# Altium footprint library HLK10M05.PcbLib: 1 footprints
Each footprint in its own frame and in the unit in brackets; x right, y up, seen from the top. Pads: shape width x height; smd on the part's side, far side on the other; paste and mask are expansions set on the pad; w line width, h text height; cw(c..) or ccw(c..) is an arc to the next point about the centre after c.
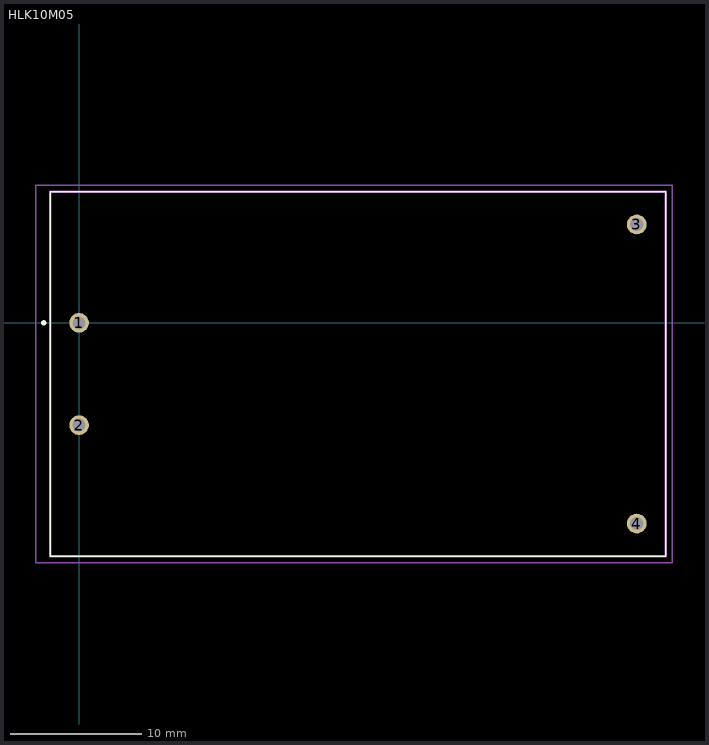
[diagram p0: the footprint, top view; thin cyan lines are the x and y axes]

## HLK10M05 [mm]
pads (4):
  round 1.5 hole 1: 1(0,0) 2(0,-7.8) 3(42.5,7.5) 4(42.5,-15.3)
Top Overlay:
  lines w0.1: -2.2,-17.8 44.7,-17.8 44.7,10 -2.2,10 -2.2,-17.8
  lines w0.2: -2.7,-0.1 cw(c-2.7,0) -2.7,0.1 ; -2.7,-0.1 -2.7,-0.1 ; -2.7,-0.1 ccw(c-2.7,0) -2.7,0.1 ; -2.7,0.1 -2.7,0.1
Mechanical 15:
  lines w0.2: -2.2,-17.8 44.7,-17.8 44.7,10 -2.2,10 -2.2,-17.8
Mechanical 20:
  lines w0.1: -3.3,-18.3 45.2,-18.3 45.2,10.5 -3.3,10.5 -3.3,-18.3